# Altium schematic symbol library schematic_component.SchLib: 6 symbols
Pins are listed as number, name and electrical type; pins without a type are passive.

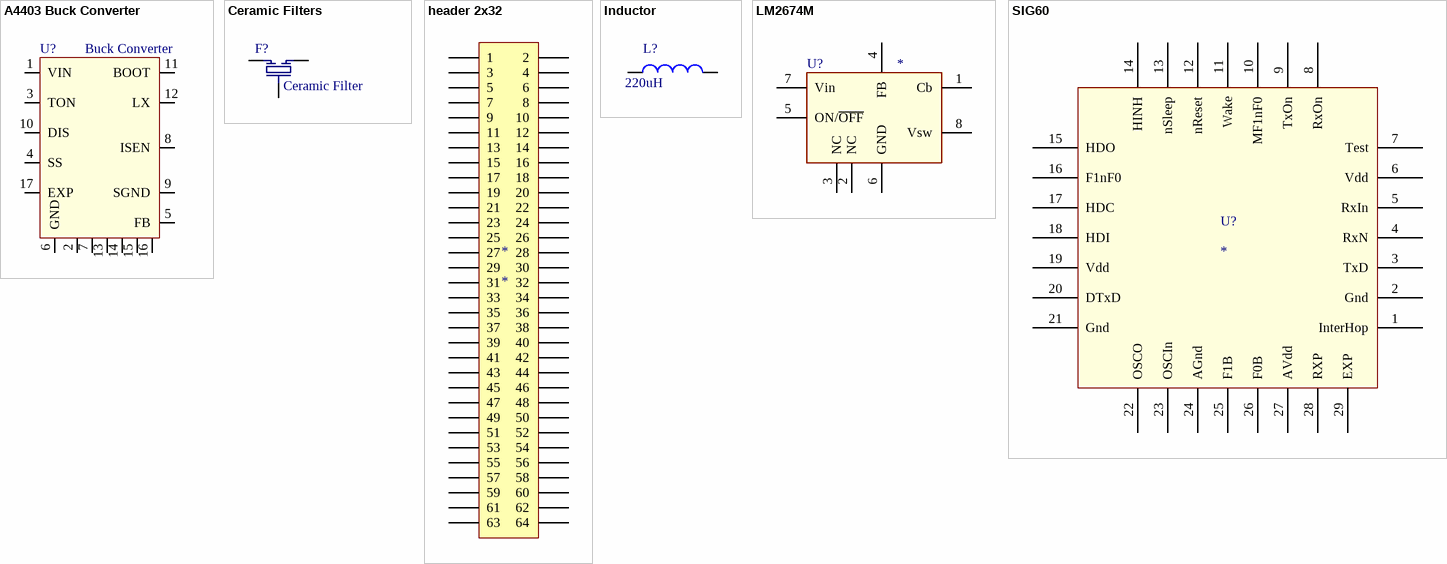
[diagram p0: symbols A4403 Buck Converter to SIG60]

## A4403 Buck Converter
designator U?, comment Buck Converter
Header, 3-Pin; LatestRevisionDate: 17-Jul-2002; LatestRevisionNote: Re-released for DXP Platform.; Publisher: Altium Limited
signal-integrity model Connector
footprint QFN65P400X400X80-16N (QFN, 16-Leads, Body 4,2x4,2mm (max), Pitch 0,65mm, IPC Medium Density)
pins: 1 VIN, 2, 3 TON, 4 SS, 5 FB, 6 GND, 7, 8 ISEN, 9 SGND, 10 DIS, 11 BOOT, 12 LX, 13, 14, 15, 16, 17 EXP

## Ceramic Filters
designator F?, comment Ceramic Filter
Header, 3-Pin; LatestRevisionDate: 17-Jul-2002; LatestRevisionNote: Re-released for DXP Platform.; Publisher: Altium Limited
footprint HDR1X3 (Connector; Header; 3 Position)
signal-integrity model Connector
footprint Ceramic_filter
pins: 1, 2, 3

## header 2x32
designator *
footprint HDR2X32
footprint HDR2X32_special
pins: 1, 2, 3, 4, 5, 6, 7, 8, 9, 10, 11, 12, 13, 14, 15, 16, 17, 18, 19, 20, 21, 22, 23, 24, 25, 26, 27, 28, 29, 30, 31, 32, 33, 34, 35, 36, 37, 38, 39, 40, 41, 42, 43, 44, 45, 46, 47, 48, 49, 50, 51, 52, 53, 54, 55, 56, 57, 58, 59, 60, 61, 62, 63, 64

## Inductor
designator L?, comment 220uH
Header, 3-Pin; LatestRevisionDate: 17-Jul-2002; LatestRevisionNote: Re-released for DXP Platform.; Publisher: Altium Limited; Value: 220uH
footprint HDR1X3 (Connector; Header; 3 Position)
signal-integrity model Connector
footprint B82464G2
footprint WE_74477006
pins: 1, 2

## LM2674M
designator U?
footprint SOP127P600X175-8N (SOP, 8-Leads, Body 5,0x4,0mm (max), Pitch 1,27mm, IPC Medium Density)
pins: 1 Cb, 2 NC, 3 NC, 4 FB, 5 ON/~{OFF}, 6 GND, 7 Vin, 8 Vsw

## SIG60
designator U?
SIG60 device. UART to PLC device.
footprint QFN65P600X600X90-28N (QFN, 28-Leads, Body 6,1x6,1mm (max), Pitch 0,65mm, IPC Medium Density)
pins: 1 InterHop, 2 Gnd (power), 3 TxD, 4 RxN, 5 RxIn, 6 Vdd (power), 7 Test, 8 RxOn, 9 TxOn, 10 MF1nF0, 11 Wake, 12 nReset, 13 nSleep, 14 HINH, 15 HDO, 16 F1nF0, 17 HDC, 18 HDI, 19 Vdd (power), 20 DTxD, 21 Gnd (power), 22 OSCO, 23 OSCIn, 24 AGnd (power), 25 F1B, 26 F0B, 27 AVdd (power), 28 RXP, 29 EXP